# EAGLE library part STM32F303XD/XE (library skatemate)
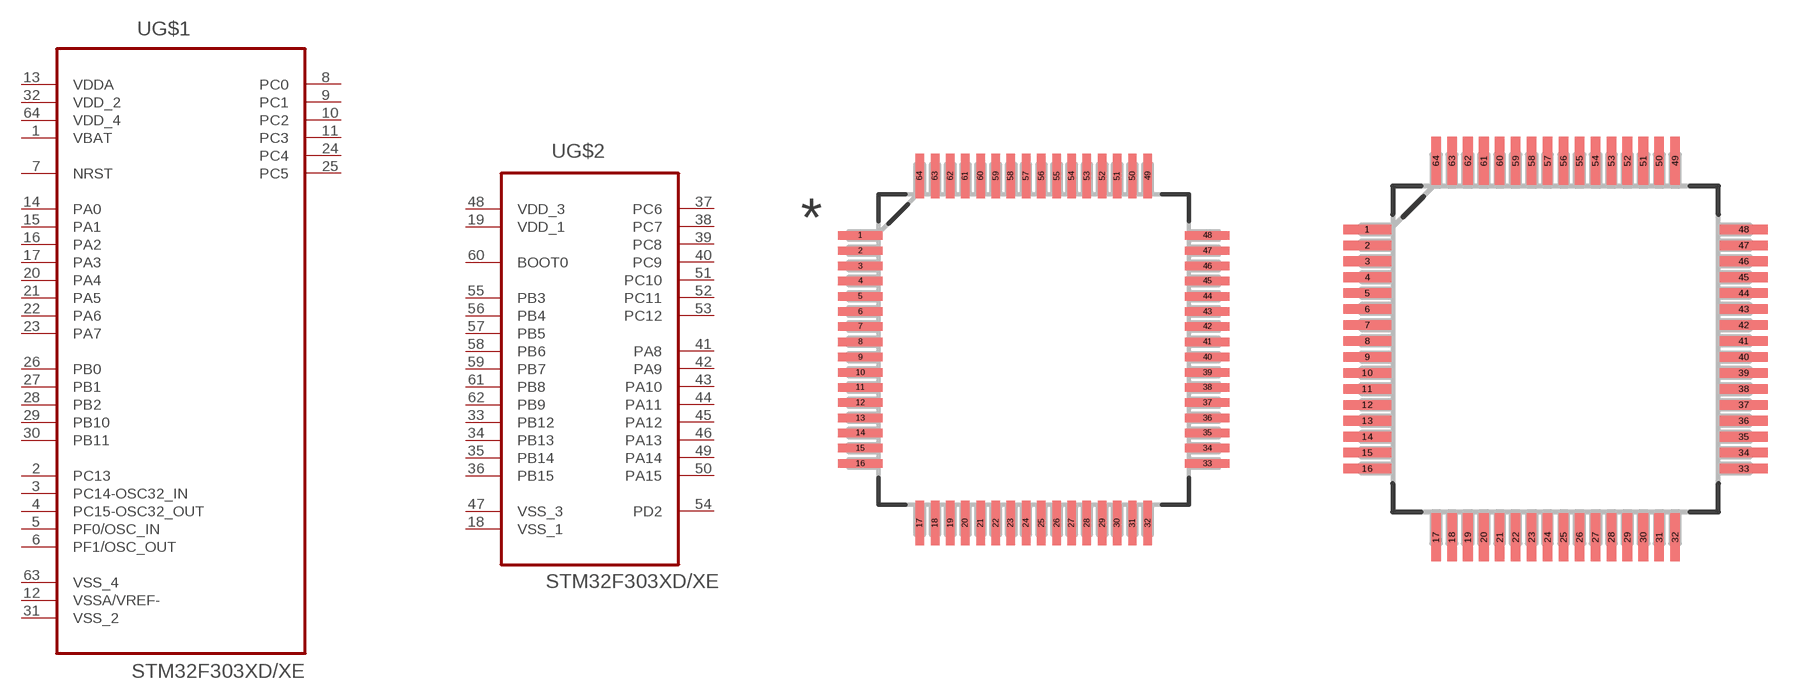
[diagram p4: symbol with the pads of QFP50P1200X1200X160-64N; footprints QFP50P1200X1200X160-64N, LQFP64]

Designator prefix -; gates G$1=STM32F303XD/XE_A G$2=STM32F303XD/XE_B

## STM32F303XD/XE  [QFP50P1200X1200X160-64N]
1  G$1:VBAT  pwr
2  G$1:PC13
3  G$1:PC14-OSC32_IN
4  G$1:PC15-OSC32_OUT
5  G$1:PF0/OSC_IN
6  G$1:PF1/OSC_OUT
7  G$1:NRST
8  G$1:PC0
9  G$1:PC1
10  G$1:PC2
11  G$1:PC3
12  G$1:VSSA/VREF-  pwr
13  G$1:VDDA  pwr
14  G$1:PA0
15  G$1:PA1
16  G$1:PA2
17  G$1:PA3
18  G$2:VSS_1  pas
19  G$2:VDD_1  pwr
20  G$1:PA4
21  G$1:PA5
22  G$1:PA6
23  G$1:PA7
24  G$1:PC4
25  G$1:PC5
26  G$1:PB0
27  G$1:PB1
28  G$1:PB2
29  G$1:PB10
30  G$1:PB11
31  G$1:VSS_2  pas
32  G$1:VDD_2  pwr
33  G$2:PB12
34  G$2:PB13
35  G$2:PB14
36  G$2:PB15
37  G$2:PC6
38  G$2:PC7
39  G$2:PC8
40  G$2:PC9
41  G$2:PA8
42  G$2:PA9
43  G$2:PA10
44  G$2:PA11
45  G$2:PA12
46  G$2:PA13
47  G$2:VSS_3  pas
48  G$2:VDD_3  pwr
49  G$2:PA14
50  G$2:PA15
51  G$2:PC10
52  G$2:PC11
53  G$2:PC12
54  G$2:PD2
55  G$2:PB3
56  G$2:PB4
57  G$2:PB5
58  G$2:PB6
59  G$2:PB7
60  G$2:BOOT0  in
61  G$2:PB8
62  G$2:PB9
63  G$1:VSS_4
64  G$1:VDD_4  pwr

## STM32F303XD/XELQFP64  [LQFP64]
Pads as for QFP50P1200X1200X160-64N

## Footprint QFP50P1200X1200X160-64N (pad centres in mm)
smd 1.473 x 0.279: 1 -5.715,3.759; 2 -5.715,3.251; 3 -5.715,2.743; 4 -5.715,2.261; 5 -5.715,1.753; 6 -5.715,1.245; 7 -5.715,0.762; 8 -5.715,0.254; 9 -5.715,-0.254; 10 -5.715,-0.762; 11 -5.715,-1.245; 12 -5.715,-1.753; 13 -5.715,-2.261; 14 -5.715,-2.743; 15 -5.715,-3.251; 16 -5.715,-3.759; 33 5.715,-3.759; 34 5.715,-3.251; 35 5.715,-2.743; 36 5.715,-2.261; 37 5.715,-1.753; 38 5.715,-1.245; 39 5.715,-0.762; 40 5.715,-0.254; 41 5.715,0.254; 42 5.715,0.762; 43 5.715,1.245; 44 5.715,1.753; 45 5.715,2.261; 46 5.715,2.743; 47 5.715,3.251; 48 5.715,3.759
smd 0.279 x 1.473: 17 -3.759,-5.715; 18 -3.251,-5.715; 19 -2.743,-5.715; 20 -2.261,-5.715; 21 -1.753,-5.715; 22 -1.245,-5.715; 23 -0.762,-5.715; 24 -0.254,-5.715; 25 0.254,-5.715; 26 0.762,-5.715; 27 1.245,-5.715; 28 1.753,-5.715; 29 2.261,-5.715; 30 2.743,-5.715; 31 3.251,-5.715; 32 3.759,-5.715; 49 3.759,5.715; 50 3.251,5.715; 51 2.743,5.715; 52 2.261,5.715; 53 1.753,5.715; 54 1.245,5.715; 55 0.762,5.715; 56 0.254,5.715; 57 -0.254,5.715; 58 -0.762,5.715; 59 -1.245,5.715; 60 -1.753,5.715; 61 -2.261,5.715; 62 -2.743,5.715; 63 -3.251,5.715; 64 -3.759,5.715

## Footprint LQFP64 (pad centres in mm)
smd 1.5 x 0.3: 1 -5.9,3.75; 2 -5.9,3.25; 3 -5.9,2.75; 4 -5.9,2.25; 5 -5.9,1.75; 6 -5.9,1.25; 7 -5.9,0.75; 8 -5.9,0.25; 9 -5.9,-0.25; 10 -5.9,-0.75; 11 -5.9,-1.25; 12 -5.9,-1.75; 13 -5.9,-2.25; 14 -5.9,-2.75; 15 -5.9,-3.25; 16 -5.9,-3.75; 33 5.9,-3.75; 34 5.9,-3.25; 35 5.9,-2.75; 36 5.9,-2.25; 37 5.9,-1.75; 38 5.9,-1.25; 39 5.9,-0.75; 40 5.9,-0.25; 41 5.9,0.25; 42 5.9,0.75; 43 5.9,1.25; 44 5.9,1.75; 45 5.9,2.25; 46 5.9,2.75; 47 5.9,3.25; 48 5.9,3.75
smd 0.3 x 1.5: 17 -3.75,-5.9; 18 -3.25,-5.9; 19 -2.75,-5.9; 20 -2.25,-5.9; 21 -1.75,-5.9; 22 -1.25,-5.9; 23 -0.75,-5.9; 24 -0.25,-5.9; 25 0.25,-5.9; 26 0.75,-5.9; 27 1.25,-5.9; 28 1.75,-5.9; 29 2.25,-5.9; 30 2.75,-5.9; 31 3.25,-5.9; 32 3.75,-5.9; 49 3.75,5.9; 50 3.25,5.9; 51 2.75,5.9; 52 2.25,5.9; 53 1.75,5.9; 54 1.25,5.9; 55 0.75,5.9; 56 0.25,5.9; 57 -0.25,5.9; 58 -0.75,5.9; 59 -1.25,5.9; 60 -1.75,5.9; 61 -2.25,5.9; 62 -2.75,5.9; 63 -3.25,5.9; 64 -3.75,5.9